# Altium footprint library Acustic.PcbLib: 1 footprints
Each footprint in its own frame and in the unit in brackets; x right, y up, seen from the top. Pads: shape width x height; smd on the part's side, far side on the other; paste and mask are expansions set on the pad; w line width, h text height; cw(c..) or ccw(c..) is an arc to the next point about the centre after c.
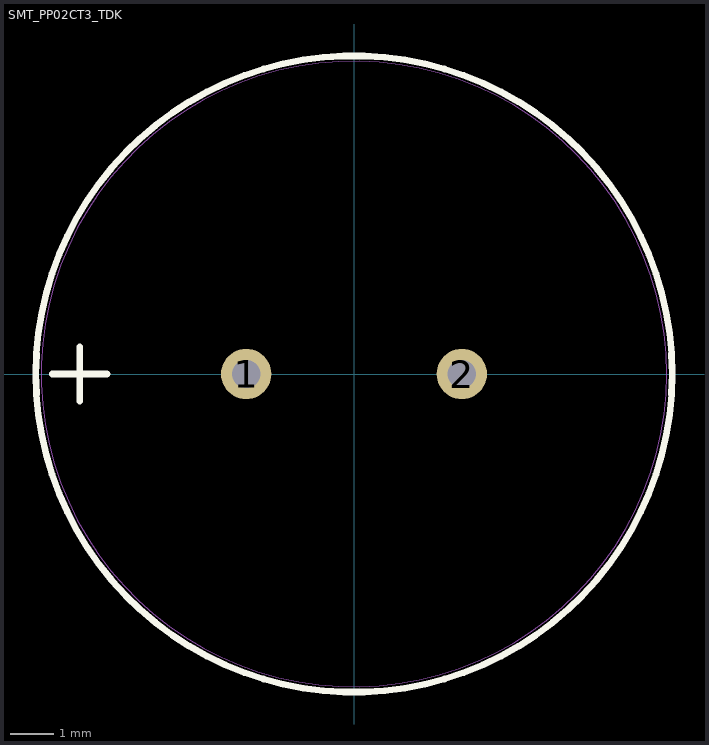
[diagram p0: the footprint, top view; thin cyan lines are the x and y axes]

## SMT_PP02CT3_TDK [mil]
pads (2):
  round 46 / inner round 60 / far side round 46 hole 26 paste-99999 mask+0: 1(-98.43,0) 2(98.43,0)
Top Overlay:
  circle w6: c0,0 r290.5
  lines w6: -275.5,0 -225.5,0 ; -250.5,-25 -250.5,25
Mechanical 13:
  circle w0: c0,0 r285.5